# Altium schematic symbol library 3288.SchLib: 1 symbol
Pins are listed as number, name and electrical type; pins without a type are passive.

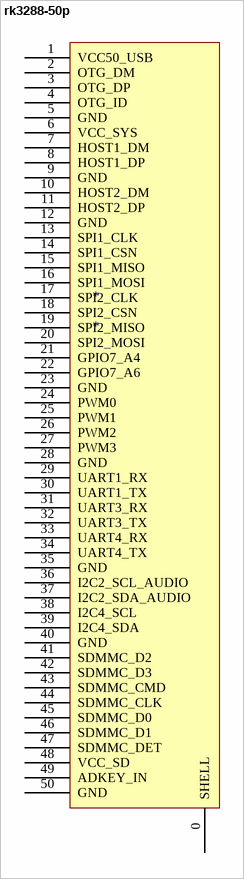
[diagram p0: symbol rk3288-50p]

## rk3288-50p
designator *
footprint FPC-0.5mm-50-revert
pins: 0 SHELL, 1 VCC50_USB, 2 OTG_DM, 3 OTG_DP, 4 OTG_ID, 5 GND, 6 VCC_SYS, 7 HOST1_DM, 8 HOST1_DP, 9 GND, 10 HOST2_DM, 11 HOST2_DP, 12 GND, 13 SPI1_CLK, 14 SPI1_CSN, 15 SPI1_MISO, 16 SPI1_MOSI, 17 SPI2_CLK, 18 SPI2_CSN, 19 SPI2_MISO, 20 SPI2_MOSI, 21 GPIO7_A4, 22 GPIO7_A6, 23 GND, 24 PWM0, 25 PWM1, 26 PWM2, 27 PWM3, 28 GND, 29 UART1_RX, 30 UART1_TX, 31 UART3_RX, 32 UART3_TX, 33 UART4_RX, 34 UART4_TX, 35 GND, 36 I2C2_SCL_AUDIO, 37 I2C2_SDA_AUDIO, 38 I2C4_SCL, 39 I2C4_SDA, 40 GND, 41 SDMMC_D2, 42 SDMMC_D3, 43 SDMMC_CMD, 44 SDMMC_CLK, 45 SDMMC_D0, 46 SDMMC_D1, 47 SDMMC_DET, 48 VCC_SD, 49 ADKEY_IN, 50 GND